# EAGLE library part TX-SAW433 (library #PaJa_31)
Modul vysilace AUREL - 433,92 MHz
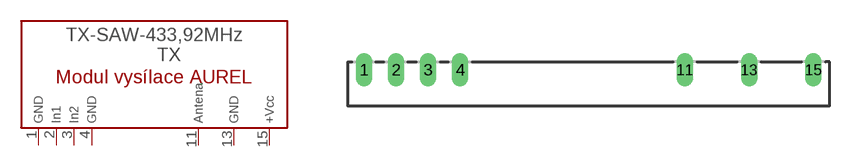
[diagram p45: symbol with the pads of TX-SAW; footprint TX-SAW]

Designator prefix TX

## TX-SAW433  [TX-SAW]
1  GND  pwr
2  IN1  in
3  IN2  in
4  GND  pwr
11  ANTENA  pas
13  GND  pwr
15  VCC  pwr

## Footprint TX-SAW (pad centres in mm)
Modul vysilace AUREL - 433,92 MHz
drill 0.813 pad 1.27 long: 1 -17.78,0.318; 2 -15.24,0.318; 3 -12.7,0.318; 4 -10.16,0.318; 11 7.62,0.318; 13 12.7,0.318; 15 17.78,0.318